# Altium schematic symbol library CKSR_25-NP.SchLib: 1 symbol
Pins are listed as number, name and electrical type; pins without a type are passive.

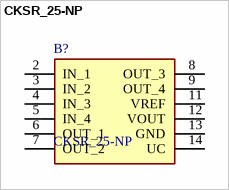
[diagram p0: symbol CKSR_25-NP]

## CKSR_25-NP
designator B?
LEM - CKSR 25-NP - CURRENT TRANSDUCER, 25A, 5V; Geometry.Height: 16mm; Manufacturer_Name: LEM; Manufacturer_Part_Number: CKSR 25-NP; Mouser Part Number: 61-CKSR25-NP; Mouser Price/Stock: https://www.mouser.co.uk/ProductDetail/LEM/CKSR-25-NP?qs=Vi0JKjFBtYkW3%252BTuOs1CCw%3D%3D; Arrow Part Number: *; Arrow Price/Stock: *; Datasheet Link: https://www.lem.com/sites/default/files/products_datasheets/cksr_series.pdf
footprint CKSR25NP
pins: 2 IN_1, 3 IN_2, 4 IN_3, 5 IN_4, 6 OUT_1, 7 OUT_2, 8 OUT_3, 9 OUT_4, 11 VREF, 12 VOUT, 13 GND, 14 UC